# EAGLE library part M-2X10- (library con-headers-jp)
MALE HEADER
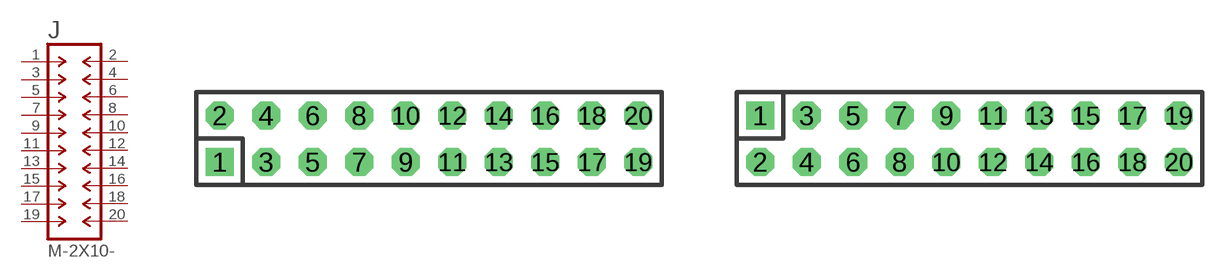
[diagram p67: symbol with the pads of DIL-100-2X10; footprints DIL-100-2X10, DIL-100-2X10_M]

Designator prefix J

## M-2X10-DIL-100 (PARTNO: 29-100033-00)  [DIL-100-2X10]
1  1  pas
2  2  pas
3  3  pas
4  4  pas
5  5  pas
6  6  pas
7  7  pas
8  8  pas
9  9  pas
10  10  pas
11  11  pas
12  12  pas
13  13  pas
14  14  pas
15  15  pas
16  16  pas
17  17  pas
18  18  pas
19  19  pas
20  20  pas

## M-2X10-DIL-100_M  [DIL-100-2X10_M]
Pads as for DIL-100-2X10

## M-2X10-DIL-2MM  [DIL-2MM-2X10]
Pads as for DIL-100-2X10

## M-2X10-DIL-2MM_M  [DIL-2MM-2X10_M]
Pads as for DIL-100-2X10

## M-2X10-87759  [87759-20]
Pads as for DIL-100-2X10

## M-2X10-87759_M  [87759-20_M]
Pads as for DIL-100-2X10

## M-2X10-T2M-110-01-X-D-TH (PARTNO: 29-100737-00)  [T2M-110-01-X-D-TH]
Pads as for DIL-100-2X10

## M-2X10-050-TH  [DIL-050-2X10]
Pads as for DIL-100-2X10

## M-2X10-100-KEYED (FEAT: Shrouded, Keyed; PARTNO: 29-100794-00; PITCH: 0.1")  [30320-6002HB]

## Footprint DIL-100-2X10 (pad centres in mm)
PIN HEADER - 0.1"
drill 1.016 square: 1 -11.43,-1.27
drill 1.016 octagon: 2 -11.43,1.27; 3 -8.89,-1.27; 4 -8.89,1.27; 5 -6.35,-1.27; 6 -6.35,1.27; 7 -3.81,-1.27; 8 -3.81,1.27; 9 -1.27,-1.27; 10 -1.27,1.27; 11 1.27,-1.27; 12 1.27,1.27; 13 3.81,-1.27; 14 3.81,1.27; 15 6.35,-1.27; 16 6.35,1.27; 17 8.89,-1.27; 18 8.89,1.27; 19 11.43,-1.27; 20 11.43,1.27

## Footprint DIL-100-2X10_M (pad centres in mm)
PIN HEADER - MIRRORED 0.1"
drill 1.016 square: 1 -11.43,1.27
drill 1.016 octagon: 2 -11.43,-1.27; 3 -8.89,1.27; 4 -8.89,-1.27; 5 -6.35,1.27; 6 -6.35,-1.27; 7 -3.81,1.27; 8 -3.81,-1.27; 9 -1.27,1.27; 10 -1.27,-1.27; 11 1.27,1.27; 12 1.27,-1.27; 13 3.81,1.27; 14 3.81,-1.27; 15 6.35,1.27; 16 6.35,-1.27; 17 8.89,1.27; 18 8.89,-1.27; 19 11.43,1.27; 20 11.43,-1.27

## Footprint DIL-2MM-2X10 (pad centres in mm)
PIN HEADER - 2MM"
drill 0.711 pad 1.321 square: 1 -9,-1
drill 0.711 pad 1.321: 2 -9,1; 3 -7,-1; 4 -7,1; 5 -5,-1; 6 -5,1; 7 -3,-1; 8 -3,1; 9 -1,-1; 10 -1,1; 11 1,-1; 12 1,1; 13 3,-1; 14 3,1; 15 5,-1; 16 5,1; 17 7,-1; 18 7,1; 19 9,-1; 20 9,1

## Footprint DIL-2MM-2X10_M (pad centres in mm)
PIN HEADER - MIRRORED 2MM
drill 0.711 pad 1.321 square: 1 -9,1
drill 0.711 pad 1.321: 2 -9,-1; 3 -7,1; 4 -7,-1; 5 -5,1; 6 -5,-1; 7 -3,1; 8 -3,-1; 9 -1,1; 10 -1,-1; 11 1,1; 12 1,-1; 13 3,1; 14 3,-1; 15 5,1; 16 5,-1; 17 7,1; 18 7,-1; 19 9,1; 20 9,-1

## Footprint 87759-20 (pad centres in mm)
Molex PCB Pin Headers 2.00mm (.079") Pitch Milli-Grid Header, Vertical SMD
smd 1 x 2.75: 1 -9,-2.15; 2 -9,2.15; 3 -7,-2.15; 4 -7,2.15; 5 -5,-2.15; 6 -5,2.15; 7 -3,-2.15; 8 -3,2.15; 9 -1,-2.15; 10 -1,2.15; 11 1,-2.15; 12 1,2.15; 13 3,-2.15; 14 3,2.15; 15 5,-2.15; 16 5,2.15; 17 7,-2.15; 18 7,2.15; 19 9,-2.15; 20 9,2.15
hole 1 at -8,0
hole 1 at 8,0

## Footprint 87759-20_M (pad centres in mm)
Molex PCB Pin Headers - MIRRORED PADS 2.00mm (.079") Pitch Milli-Grid Header, Vertical SMD
smd 1 x 2.75: 1 -9,2.15; 2 -9,-2.15; 3 -7,2.15; 4 -7,-2.15; 5 -5,2.15; 6 -5,-2.15; 7 -3,2.15; 8 -3,-2.15; 9 -1,2.15; 10 -1,-2.15; 11 1,2.15; 12 1,-2.15; 13 3,2.15; 14 3,-2.15; 15 5,2.15; 16 5,-2.15; 17 7,2.15; 18 7,-2.15; 19 9,2.15; 20 9,-2.15
hole 1 at -8,0
hole 1 at 8,0

## Footprint T2M-110-01-X-D-TH (pad centres in mm)
Samtec T2M Series vertical through-hole 20pos Mates with S2M Series Samtec T2M Series <http://www.samtec.com/technical-specifications/Default.aspx?SeriesMaster=T2M>
drill 0.795 pad 1.27: 1 -9,-1; 2 -9,1; 3 -7,-1; 4 -7,1; 5 -5,-1; 6 -5,1; 7 -3,-1; 8 -3,1; 9 -1,-1; 10 -1,1; 11 1,-1; 12 1,1; 13 3,-1; 14 3,1; 15 5,-1; 16 5,1; 17 7,-1; 18 7,1; 19 9,-1; 20 9,1

## Footprint DIL-050-2X10 (pad centres in mm)
PIN HEADER - 0.05"
drill 0.66 pad 1.118 square: 1 -5.715,-0.635
drill 0.66 pad 1.118: 2 -5.715,0.635; 3 -4.445,-0.635; 4 -4.445,0.635; 5 -3.175,-0.635; 6 -3.175,0.635; 7 -1.905,-0.635; 8 -1.905,0.635; 9 -0.635,-0.635; 10 -0.635,0.635; 11 0.635,-0.635; 12 0.635,0.635; 13 1.905,-0.635; 14 1.905,0.635; 15 3.175,-0.635; 16 3.175,0.635; 17 4.445,-0.635; 18 4.445,0.635; 19 5.715,-0.635; 20 5.715,0.635

## Footprint 30320-6002HB (pad centres in mm)
CONN HEADER 20POS DL STR GOLD 3M™ Low Profile Header, 0.1” × 0.1”, 20 Pos Straight, Shrouded, Keyed Slot 303 Series Datasheet <http://multimedia.3m.com/mws/media/22504O/3mtm-100-in-loprof-hdr-100x-100strt-ra-4-wall-ts0818.pdf>
drill 1.016 square: 1 -1.27,0
drill 1.016: 2 1.27,0; 3 -1.27,-2.54; 4 1.27,-2.54; 5 -1.27,-5.08; 6 1.27,-5.08; 7 -1.27,-7.62; 8 1.27,-7.62; 9 -1.27,-10.16; 10 1.27,-10.16; 11 -1.27,-12.7; 12 1.27,-12.7; 13 -1.27,-15.24; 14 1.27,-15.24; 15 -1.27,-17.78; 16 1.27,-17.78; 17 -1.27,-20.32; 18 1.27,-20.32; 19 -1.27,-22.86; 20 1.27,-22.86